# Altium schematic symbol library diode_9.Schlib: 1 symbol
Pins are listed as number, name and electrical type; pins without a type are passive.

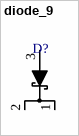
[diagram p0: symbol diode_9]

## diode_9
designator D?  (value not drawn)
Schottky, Dual Cathode
pins: 1 C1, 2 C2, 3 A